# EAGLE library part MAX3323EEUE-T (library MAX3323EEUE-T)
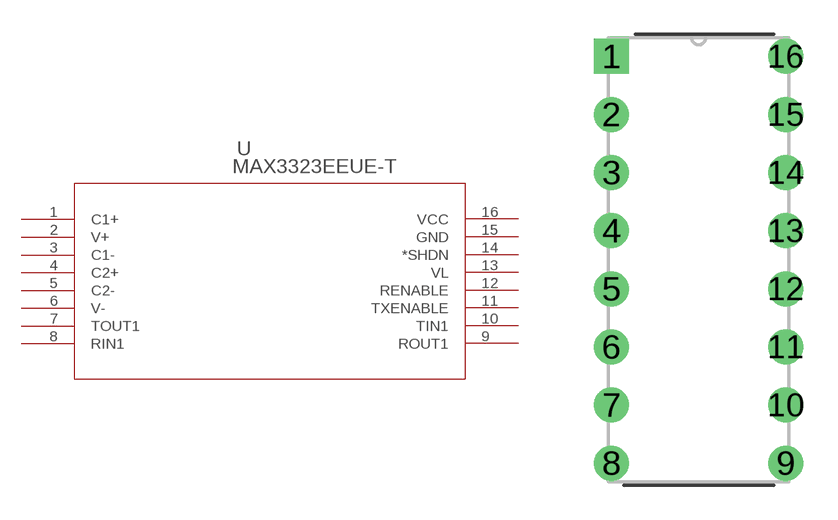
[diagram p0: symbol with the pads of 21-0043D_16; footprint 21-0043D_16]

Designator prefix U

## MAX3323EEUE-T (Availability: Unavailable; Description: 1/1 Transceiver Full RS232 16-TSSOP; MF: Maxim Integrated; MP: MAX3323EEUE-T; Package: None; Price: None)  [21-0043D_16]
1  C1+  pas
2  V+  pwr
3  C1-  pas
4  C2+  pas
5  C2-  pas
6  V-  pwr
7  TOUT1  out
8  RIN1  in
9  ROUT1  out
10  TIN1  in
11  TXENABLE  pas
12  RENABLE  pas
13  VL  pwr
14  *SHDN  pas
15  GND  pwr
16  VCC  pwr

## Footprint 21-0043D_16 (pad centres in mm)
drill 0.813 pad 1.524 square: 1 -7.62,17.78
drill 0.813 pad 1.524: 2 -7.62,15.24; 3 -7.62,12.7; 4 -7.62,10.16; 5 -7.62,7.62; 6 -7.62,5.08; 7 -7.62,2.54; 8 -7.62,0; 9 0,0; 10 0,2.54; 11 0,5.08; 12 0,7.62; 13 0,10.16; 14 0,12.7; 15 0,15.24; 16 0,17.78